# Altium footprint library Arena.PcbLib: 12 footprints
Each footprint in its own frame and in the unit in brackets; x right, y up, seen from the top. Pads: shape width x height; smd on the part's side, far side on the other; paste and mask are expansions set on the pad; w line width, h text height; cw(c..) or ccw(c..) is an arc to the next point about the centre after c.
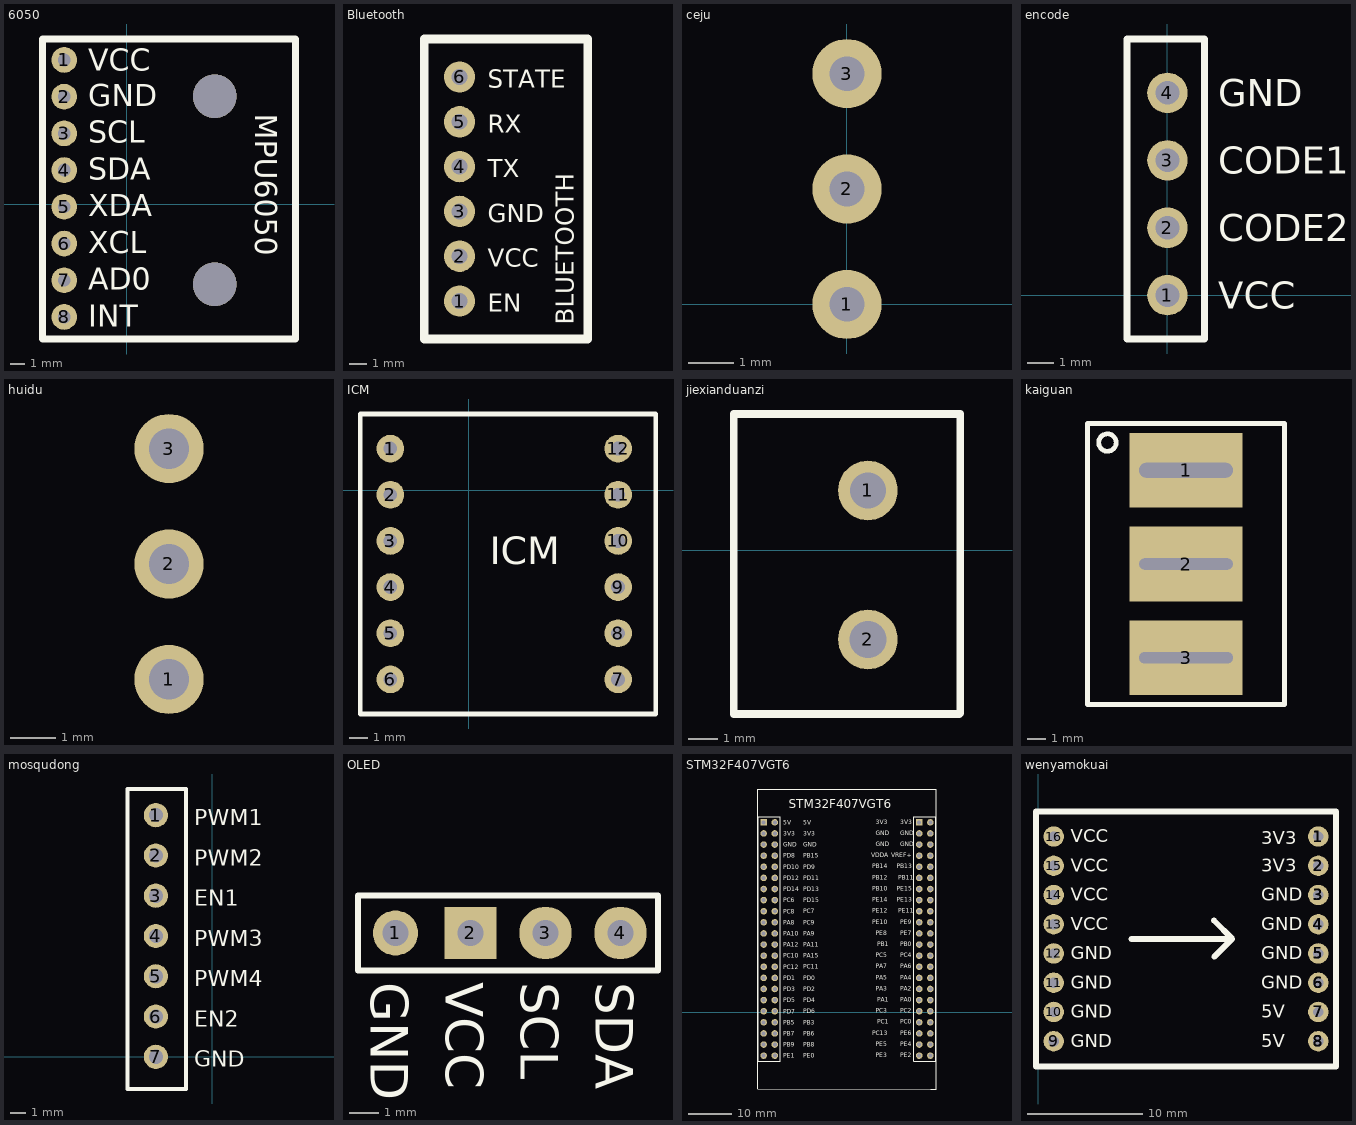
[diagram p0: the footprints below, top view; thin cyan lines are the x and y axes]

## 6050 [mil]
pads (8):
  round 70 hole 35: 1(-170,393) 2(-170,293) 3(-170,193) 4(-170,93) 5(-170,-7) 6(-170,-107) 7(-170,-207) 8(-170,-307)
via 240,-218 diameter 118.11 hole 118.11
via 240,294 diameter 118.11 hole 118.11
Top Overlay:
  lines w19.68: -229.06,-367 459.92,-367 459.92,450 -43.36,450 -229.06,450 -229.06,-367
  text "INT" at -104,-333 h60
  text "AD0" at -104,-233 h60
  text "XCL" at -104,-133 h60
  text "XDA" at -104,-33 h60
  text "SDA" at -104,67 h60
  text "SCL" at -104,167 h60
  text "GND" at -104,267 h60
  text "VCC" at -104,363 h60
  text "MPU6050" at 351,246 h60

## Bluetooth [mil]
pads (6):
  round 70 hole 35: 1(-1027,1152) 2(-1027,1252) 3(-1027,1352) 4(-1027,1452) 5(-1027,1552) 6(-1027,1652)
Top Overlay:
  lines w19.68: -1105.74,1067.35 -1105.74,1736.65 -925,1736.65 -741,1736.65 -741,1067.35 -1105.74,1067.35
  text "BLUETOOTH" at -772,1099 h40
  text "STATE" at -964,1628 h40
  text "RX" at -964,1528 h40
  text "TX" at -964,1428 h40
  text "GND" at -964,1328 h40
  text "VCC" at -964,1228 h40
  text "EN" at -964,1128 h40

## ceju [mil]
pads (3):
  round 60 hole 30: 1(0,0) 2(0,100) 3(0,200)

## encode [mil]
pads (4):
  round 60 hole 35: 1(0,0) 2(0,100) 3(0,200) 4(0,300)
Top Overlay:
  lines w10: -60,-65 -60,380 55,380 55,-65 -60,-65
  text "GND" at 75,280 h40
  text "CODE1" at 75,180 h40
  text "CODE2" at 75,80 h40
  text "VCC" at 75,-20 h40

## huidu [mil]
pads (3):
  round 60 hole 35: 1(-22775,7590) 2(-22775,7690) 3(-22775,7790)

## ICM [mil]
pads (12):
  round 60 hole 30: 1(-170,90) 2(-170,-10) 3(-170,-110) 4(-170,-210) 5(-170,-310) 6(-170,-410) 7(323.7,-410) 8(323.7,-310) 9(323.7,-210) 10(323.7,-110) 11(323.7,-10) 12(323.7,90)
Top Overlay:
  lines w10: -235,-485 405,-485 405,165 -235,165 -235,-485
  text "ICM" at 45,-160 h60

## jiexianduanzi [mm]
pads (2):
  round 2 hole 1.2: 1(-12.789,2.007)
  round 2 hole 1.25: 2(-12.789,-2.993)
Top Overlay:
  lines w0.254: -17.289,-5.493 -9.727,-5.493 -9.694,-5.46 -9.694,4.572 -17.289,4.572 -17.289,-5.493

## kaiguan [mm]
pads (3):
  rect 6x4 hole 0.8 slot 5 at 0 deg: 1(-35.636,60.931)
  rect 6x4 hole 0.6 slot 5 at 0 deg: 2(-35.636,55.931) 3(-35.636,50.931)
Top Overlay:
  circle w0.254: c-39.827,62.408 r0.466
  lines w0.254: -40.886,48.431 -30.386,48.431 -30.386,63.431 -40.886,63.431 -40.886,48.431

## mosqudong [mil]
pads (7):
  round 60 hole 35: 1(-140,600) 2(-140,500) 3(-140,400) 4(-140,300) 5(-140,200) 6(-140,100) 7(-140,0)
Top Overlay:
  lines w10: -210,-80 -65,-80 -65,665 -210,665 -210,-80
  text "PWM1" at -45,575 h40
  text "PWM2" at -45,475 h40
  text "EN1" at -45,375 h40
  text "PWM3" at -45,275 h40
  text "PWM4" at -45,175 h40
  text "EN2" at -45,75 h40
  text "GND" at -45,-25 h40

## OLED [mil]
pads (4):
  round 60 hole 35: 1(-1045,864)
  rect 70x70 hole 35: 2(-945,864)
  round 70 hole 35: 3(-845,864) 4(-745,864)
Top Overlay:
  lines w7.87: -1095,814 -1095,914 -695,914 -695,814 -1095,814
  text "SDA" at -778,798 h50
  text "SCL" at -878,798 h50
  text "VCC" at -978,798 h50
  text "GND" at -1078,798 h50

## STM32F407VGT6 [mm]
pads (88):
  round 1.5 hole 0.9: 1(-106.914,43.414) 2(-106.914,40.874) 3(-106.914,38.334) 4(-106.914,35.794) 5(-106.914,33.254) 6(-106.914,30.714) 7(-106.914,28.174) 8(-106.914,25.634) 9(-106.914,23.094) 10(-106.914,20.554) 11(-106.914,18.014) 12(-106.914,15.474) 13(-106.914,12.934) 14(-106.914,10.394) 15(-106.914,7.854) 16(-106.914,5.314) 17(-106.914,2.774) 18(-106.914,0.234) 19(-106.914,-2.306) 20(-106.914,-4.846) 21(-106.914,-7.386) 22(-106.914,-9.926) 23(-109.454,-9.926) 24(-109.454,-7.386) 25(-109.454,-4.846) 26(-109.454,-2.306) 27(-109.454,0.234) 28(-109.454,2.774) 29(-109.454,5.314) 30(-109.454,7.854) 31(-109.454,10.394) 32(-109.454,12.934) 33(-109.454,15.474) 34(-109.454,18.014) 35(-109.454,20.554) 36(-109.454,23.094) 37(-109.454,25.634) 38(-109.454,28.174) 39(-109.454,30.714) 40(-109.454,33.254) 41(-109.454,35.794) 42(-109.454,38.334) 43(-109.454,40.874) 46(-145.014,40.874) 47(-145.014,38.334) 48(-145.014,35.794) 49(-145.014,33.254) 50(-145.014,30.714) 51(-145.014,28.174) 52(-145.014,25.634) 53(-145.014,23.094) 54(-145.014,20.554) 55(-145.014,18.014) 56(-145.014,15.474) 57(-145.014,12.934) 58(-145.014,10.394) 59(-145.014,7.854) 60(-145.014,5.314) 61(-145.014,2.774) 62(-145.014,0.234) 63(-145.014,-2.306) 64(-145.014,-4.846) 65(-145.014,-7.386) 66(-145.014,-9.926) 67(-142.474,-9.926) 68(-142.474,-7.386) 69(-142.474,-4.846) 70(-142.474,-2.306) 71(-142.474,0.234) 72(-142.474,2.774) 73(-142.474,5.314) 74(-142.474,7.854) 75(-142.474,10.394) 76(-142.474,12.934) 77(-142.474,15.474) 78(-142.474,18.014) 79(-142.474,20.554) 80(-142.474,23.094) 81(-142.474,25.634) 82(-142.474,28.174) 83(-142.474,30.714) 84(-142.474,33.254) 85(-142.474,35.794) 86(-142.474,38.334) 87(-142.474,40.874) 88(-142.474,43.414)
  rect 1.5x1.5 hole 0.9: 44(-109.454,43.414) 45(-145.014,43.414)
Top Overlay:
  lines w0.2: -146.284,-11.196 -141.204,-11.196 -141.204,44.684 -146.284,44.684 -146.284,-11.196 ; -110.724,-11.196 -105.644,-11.196 -105.644,44.684 -110.724,44.684 -110.724,-11.196
  lines w0.254: -146.411,-17.551 -106.807,-17.551 -105.517,-17.551 -105.517,51.039 -146.411,51.039 -146.411,-17.551
  text "STM32F407VGT6" at -139.319,46.609 h2.03
  text "5V" at -140.589,42.886 h1.02
  text "5V" at -136.017,42.906 h1.02
  text "3V3" at -140.589,40.346 h1.02
  text "3V3" at -136.017,40.366 h1.02
  text "GND" at -140.589,37.806 h1.02
  text "GND" at -136.017,37.826 h1.02
  text "PD8" at -140.589,35.266 h1.02
  text "PB15" at -136.017,35.286 h1.02
  text "PD10" at -140.589,32.726 h1.02
  text "PD9" at -136.017,32.746 h1.02
  text "PD12" at -140.589,30.186 h1.02
  text "PD11" at -136.017,30.206 h1.02
  text "PD14" at -140.589,27.646 h1.02
  text "PD13" at -136.017,27.666 h1.02
  text "PC6" at -140.589,25.106 h1.02
  text "PD15" at -136.017,25.126 h1.02
  text "PC8" at -140.589,22.566 h1.02
  text "PC7" at -136.017,22.586 h1.02
  text "PA8" at -140.589,20.026 h1.02
  text "PC9" at -136.017,20.046 h1.02
  text "PA10" at -140.589,17.486 h1.02
  text "PA9" at -136.017,17.506 h1.02
  text "PA12" at -140.589,14.946 h1.02
  text "PA11" at -136.017,14.966 h1.02
  text "PC10" at -140.589,12.406 h1.02
  text "PA15" at -136.017,12.426 h1.02
  text "PC12" at -140.589,9.866 h1.02
  text "PC11" at -136.017,9.886 h1.02
  text "PD1" at -140.589,7.326 h1.02
  text "PD0" at -136.017,7.346 h1.02
  text "PD3" at -140.589,4.786 h1.02
  text "PD2" at -136.017,4.806 h1.02
  text "PD5" at -140.589,2.246 h1.02
  text "PD4" at -136.017,2.266 h1.02
  text "PD7" at -140.589,-0.294 h1.02
  text "PD6" at -136.017,-0.274 h1.02
  text "PB5" at -140.589,-2.834 h1.02
  text "PB3" at -136.017,-2.814 h1.02
  text "PB7" at -140.589,-5.374 h1.02
  text "PB6" at -136.017,-5.354 h1.02
  text "PB9" at -140.589,-7.914 h1.02
  text "PB8" at -136.017,-7.894 h1.02
  text "PE1" at -140.589,-10.454 h1.02
  text "PE0" at -136.017,-10.434 h1.02
  text "PE2" at -113.793,-10.307 h1.02
  text "PE3" at -119.38,-10.307 h1.02
  text "PE4" at -113.793,-7.767 h1.02
  text "PE5" at -119.38,-7.767 h1.02
  text "PE6" at -113.793,-5.227 h1.02
  text "PC13" at -120.227,-5.227 h1.02
  text "PC0" at -113.793,-2.687 h1.02
  text "PC1" at -119.042,-2.687 h1.02
  text "PC2" at -113.793,-0.147 h1.02
  text "PC3" at -119.38,-0.147 h1.02
  text "PA0" at -113.793,2.393 h1.02
  text "PA1" at -119.042,2.393 h1.02
  text "PA2" at -113.793,4.933 h1.02
  text "PA3" at -119.38,4.933 h1.02
  text "PA4" at -113.793,7.473 h1.02
  text "PA5" at -119.38,7.473 h1.02
  text "PA6" at -113.793,10.013 h1.02
  text "PA7" at -119.38,10.013 h1.02
  text "PC4" at -113.793,12.553 h1.02
  text "PC5" at -119.38,12.553 h1.02
  text "PB0" at -113.793,15.093 h1.02
  text "PB1" at -119.042,15.093 h1.02
  text "PE7" at -113.793,17.633 h1.02
  text "PE8" at -119.38,17.633 h1.02
  text "PE9" at -113.793,20.173 h1.02
  text "PE10" at -120.227,20.173 h1.02
  text "PE11" at -114.3,22.713 h1.02
  text "PE12" at -120.227,22.713 h1.02
  text "PE13" at -114.639,25.253 h1.02
  text "PE14" at -120.227,25.253 h1.02
  text "PE15" at -114.639,27.793 h1.02
  text "PB10" at -120.227,27.793 h1.02
  text "PB11" at -114.3,30.333 h1.02
  text "PB12" at -120.227,30.333 h1.02
  text "PB13" at -114.639,32.873 h1.02
  text "PB14" at -120.227,32.873 h1.02
  text "VREF+" at -115.824,35.413 h1.02
  text "VDDA" at -120.396,35.413 h1.02
  text "GND" at -113.793,37.953 h1.02
  text "GND" at -119.38,37.953 h1.02
  text "GND" at -113.793,40.493 h1.02
  text "GND" at -119.38,40.493 h1.02
  text "3V3" at -113.793,43.033 h1.02
  text "3V3" at -119.38,43.033 h1.02
3D body: height 0.25, standoff 0, extent -143.51,59.944 -143.51,59.944

## wenyamokuai [mil]
pads (104):
  round 70 hole 35: 1(957.5,919) 1(957.5,919) 1(957.5,919) 1(957.5,919) 1(957.5,919) 1(957.5,919) 1(957.5,919) 1(957.5,919) 1(957.5,919) 1(957.5,919) 1(957.5,919) 1(957.5,919) 2(957.5,819) 2(957.5,819) 2(957.5,819) 2(957.5,819) 2(957.5,819) 2(957.5,819) 2(957.5,819) 2(957.5,819) 2(957.5,819) 2(957.5,819) 2(957.5,819) 2(957.5,819) 3(957.5,719) 3(957.5,719) 3(957.5,719) 3(957.5,719) 3(957.5,719) 3(957.5,719) 3(957.5,719) 3(957.5,719) 3(957.5,719) 3(957.5,719) 3(957.5,719) 3(957.5,719) 4(957.5,619) 4(957.5,619) 4(957.5,619) 4(957.5,619) 4(957.5,619) 4(957.5,619) 4(957.5,619) 4(957.5,619) 4(957.5,619) 4(957.5,619) 4(957.5,619) 4(957.5,619) 5(957.5,519) 5(957.5,519) 5(957.5,519) 5(957.5,519) 5(957.5,519) 5(957.5,519) 5(957.5,519) 5(957.5,519) 5(957.5,519) 5(957.5,519) 5(957.5,519) 5(957.5,519) 6(957.5,419) 6(957.5,419) 6(957.5,419) 6(957.5,419) 6(957.5,419) 6(957.5,419) 6(957.5,419) 6(957.5,419) 6(957.5,419) 6(957.5,419) 6(957.5,419) 6(957.5,419) 7(957.5,319) 7(957.5,319) 7(957.5,319) 7(957.5,319) 7(957.5,319) 7(957.5,319) 7(957.5,319) 7(957.5,319) 7(957.5,319) 7(957.5,319) 7(957.5,319) 7(957.5,319) 8(957.5,219) 8(957.5,219) 8(957.5,219) 8(957.5,219) 8(957.5,219) 8(957.5,219) 8(957.5,219) 8(957.5,219) 8(957.5,219) 8(957.5,219) 8(957.5,219) 8(957.5,219) 9(52.5,219) 10(52.5,319) 11(52.5,419) 12(52.5,519) 13(52.5,619) 14(52.5,719) 15(52.5,819) 16(52.5,919)
Top Overlay:
  lines w20: 319,569 663,569 600.5,631.5 ; 601.75,507.75 660,566 660,569 ; -8,133 1018,133 1018,1004 717,1004 -8,1004 -8,133
  text "VCC" at 111,899 h45
  text "VCC" at 111,799 h45
  text "VCC" at 111,699 h45
  text "VCC" at 111,599 h45
  text "GND" at 111,499 h45
  text "GND" at 111,399 h45
  text "GND" at 111,299 h45
  text "GND" at 111,199 h45
  text "5V" at 762,199 h45
  text "5V" at 762,299 h45
  text "GND" at 762,399 h45
  text "GND" at 762,499 h45
  text "GND" at 762,599 h45
  text "GND" at 762,699 h45
  text "3V3" at 762,798 h45
  text "3V3" at 762,892 h45